# Altium schematic symbol library MasterProcessor.SchLib: 6 symbols
Pins are listed as number, name and electrical type; pins without a type are passive.

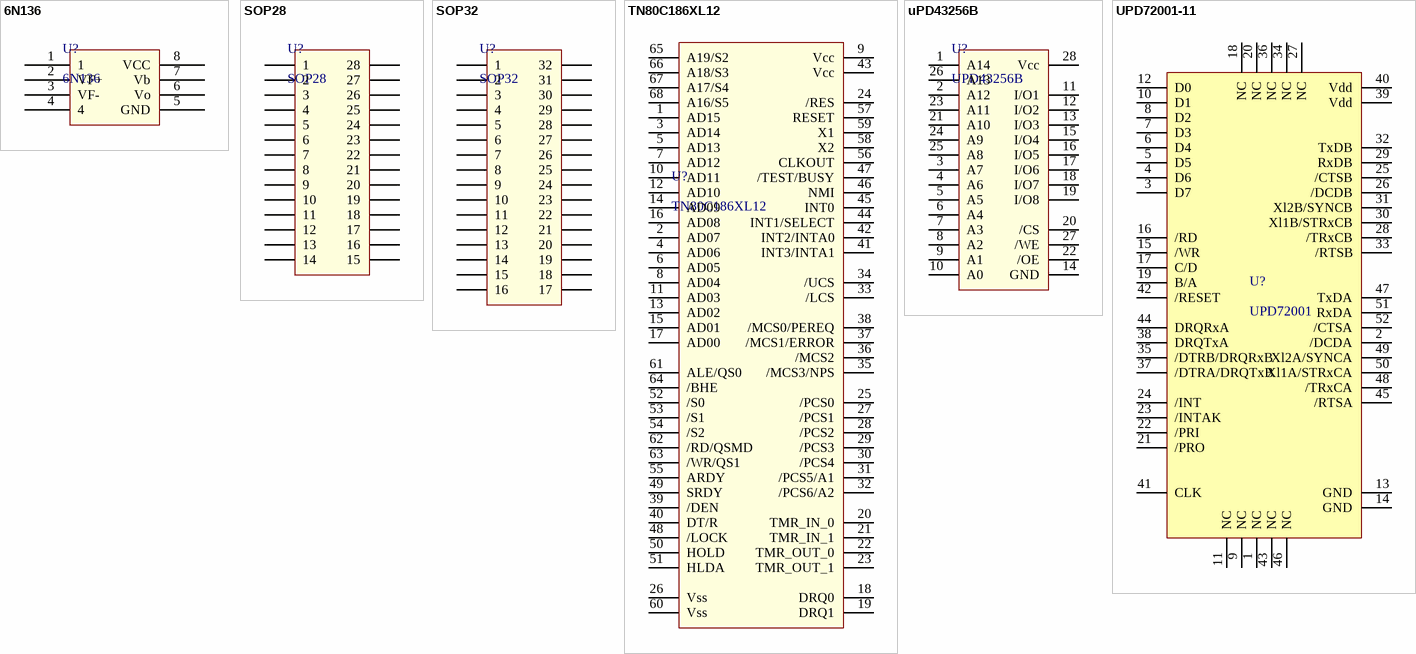
[diagram p0: symbols 6N136 to UPD72001-11]

## 6N136
designator U?
Optoacoplador
pins: 1, 2 VF+, 3 VF-, 4, 5 GND, 6 Vo, 7 Vb, 8 VCC

## SOP28
designator U?
pins: 1, 2, 3, 4, 5, 6, 7, 8, 9, 10, 11, 12, 13, 14, 15, 16, 17, 18, 19, 20, 21, 22, 23, 24, 25, 26, 27, 28

## SOP32
designator U?
pins: 1, 2, 3, 4, 5, 6, 7, 8, 9, 10, 11, 12, 13, 14, 15, 16, 17, 18, 19, 20, 21, 22, 23, 24, 25, 26, 27, 28, 29, 30, 31, 32

## TN80C186XL12
designator U?
pins: 1 AD15, 2 AD07, 3 AD14, 4 AD06, 5 AD13, 6 AD05, 7 AD12, 8 AD04, 9 Vcc, 10 AD11, 11 AD03, 12 AD10, 13 AD02, 14 AD09, 15 AD01, 16 AD08, 17 AD00, 18 DRQ0, 19 DRQ1, 20 TMR_IN_0, 21 TMR_IN_1, 22 TMR_OUT_0, 23 TMR_OUT_1, 24 /RES, 25 /PCS0, 26 Vss, 27 /PCS1, 28 /PCS2, 29 /PCS3, 30 /PCS4, 31 /PCS5/A1, 32 /PCS6/A2, 33 /LCS, 34 /UCS, 35 /MCS3/NPS, 36 /MCS2, 37 /MCS1/ERROR, 38 /MCS0/PEREQ, 39 /DEN, 40 DT/R, 41 INT3/INTA1, 42 INT2/INTA0, 43 Vcc, 44 INT1/SELECT, 45 INT0, 46 NMI, 47 /TEST/BUSY, 48 /LOCK, 49 SRDY, 50 HOLD, 51 HLDA, 52 /S0, 53 /S1, 54 /S2, 55 ARDY, 56 CLKOUT, 57 RESET, 58 X2, 59 X1, 60 Vss, 61 ALE/QS0, 62 /RD/QSMD, 63 /WR/QS1, 64 /BHE, 65 A19/S2, 66 A18/S3, 67 A17/S4, 68 A16/S5

## uPD43256B
designator U?, comment UPD43256B
pins: 1 A14, 2 A12, 3 A7, 4 A6, 5 A5, 6 A4, 7 A3, 8 A2, 9 A1, 10 A0, 11 I/O1, 12 I/O2, 13 I/O3, 14 GND, 15 I/O4, 16 I/O5, 17 I/O6, 18 I/O7, 19 I/O8, 20 /CS, 21 A10, 22 /OE, 23 A11, 24 A9, 25 A8, 26 A13, 27 /WE, 28 Vcc

## UPD72001-11
designator U?, comment UPD72001
pins: 1 NC, 2 /DCDA, 3 D7, 4 D6, 5 D5, 6 D4, 7 D3, 8 D2, 9 NC, 10 D1, 11 NC, 12 D0, 13 GND, 14 GND, 15 /WR, 16 /RD, 17 C/D, 18 NC, 19 B/A, 20 NC, 21 /PRO, 22 /PRI, 23 /INTAK, 24 /INT, 25 /CTSB, 26 /DCDB, 27 NC, 28 /TRxCB, 29 RxDB, 30 Xl1B/STRxCB, 31 Xl2B/SYNCB, 32 TxDB, 33 /RTSB, 34 NC, 35 /DTRB/DRQRxB, 36 NC, 37 /DTRA/DRQTxB, 38 DRQTxA, 39 Vdd, 40 Vdd, 41 CLK, 42 /RESET, 43 NC, 44 DRQRxA, 45 /RTSA, 46 NC, 47 TxDA, 48 /TRxCA, 49 Xl2A/SYNCA, 50 Xl1A/STRxCA, 51 RxDA, 52 /CTSA